# EAGLE library part MAX4081 (library NASA_LIB)
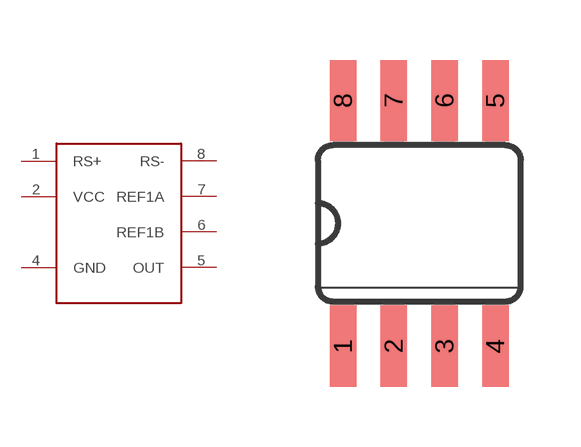
[diagram p2: symbol with the pads of SO08; footprint SO08]

Designator prefix -

## MAX4081  [SO08]
1  RS+
2  VCC
4  GND
5  OUT
6  REF1B
7  REF1A
8  RS-

## Footprint SO08 (pad centres in mm)
smd 0.66 x 2.032: 1 -1.905,-3.073; 2 -0.635,-3.073; 3 0.635,-3.073; 4 1.905,-3.073; 5 1.905,3.073; 6 0.635,3.073; 7 -0.635,3.073; 8 -1.905,3.073